# Altium schematic symbol library IC_ANA.SchLib: 5 symbols
Pins are listed as number, name and electrical type; pins without a type are passive.

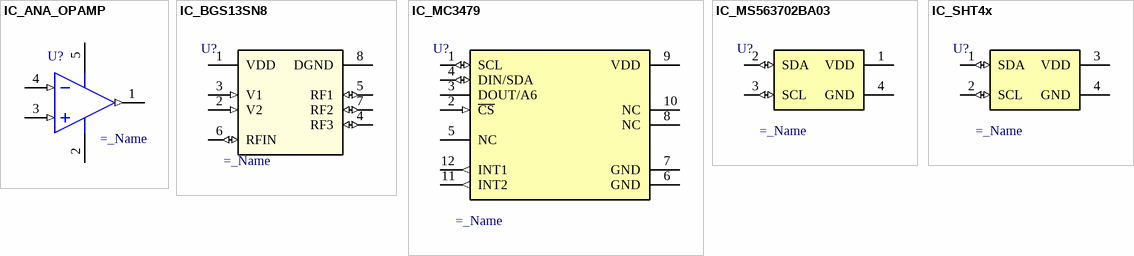
[diagram p0: symbols IC_ANA_OPAMP to IC_SHT4x]

## IC_ANA_OPAMP
designator U?  (value not drawn)
=description; Value: =_Name
pins: 1 OUT (out) "Output.", 2 V- (power) "Negative Supply Voltage, Usually -5V.", 3 +IN (in) "Noninverting Input.", 4 -IN (in) "Inverting Input.", 5 V+ (power) "Positive Supply Voltage, Usually 5V."

## IC_BGS13SN8
designator U?  (value not drawn)
=description; Value: =_Name
pins: 1 VDD (power) "Power Supply", 2 V2 (in) "Control Pin 2", 3 V1 (in) "Control Pin 1", 4 RF3 (io) "RF-Port 3", 5 RF1 (io) "RF-Port 1", 6 RFIN (io) "RF Input", 7 RF2 (io) "RF-Port 2", 8 DGND (power) "Digital Ground"

## IC_MC3479
designator U?  (value not drawn)
=description; Value: =_Name
pins: 1 SCL (io), 2 ~{CS} (in), 3 DOUT/A6, 4 DIN/SDA (io), 5 NC, 6 GND (power), 7 GND (power), 8 NC (power), 9 VDD (power), 10 NC (power), 11 INT2 (out), 12 INT1 (out)

## IC_MS563702BA03
designator U?  (value not drawn)
=description; Value: =_Name
pins: 1 VDD, 2 SDA (io), 3 SCL (io), 4 GND

## IC_SHT4x
designator U?  (value not drawn)
=description; Value: =_Name
pins: 1 SDA (io), 2 SCL (io), 3 VDD (power), 4 GND (power)